# Altium footprint library arrester.PcbLib: 1 footprints
Each footprint in its own frame and in the unit in brackets; x right, y up, seen from the top. Pads: shape width x height; smd on the part's side, far side on the other; paste and mask are expansions set on the pad; w line width, h text height; cw(c..) or ccw(c..) is an arc to the next point about the centre after c.
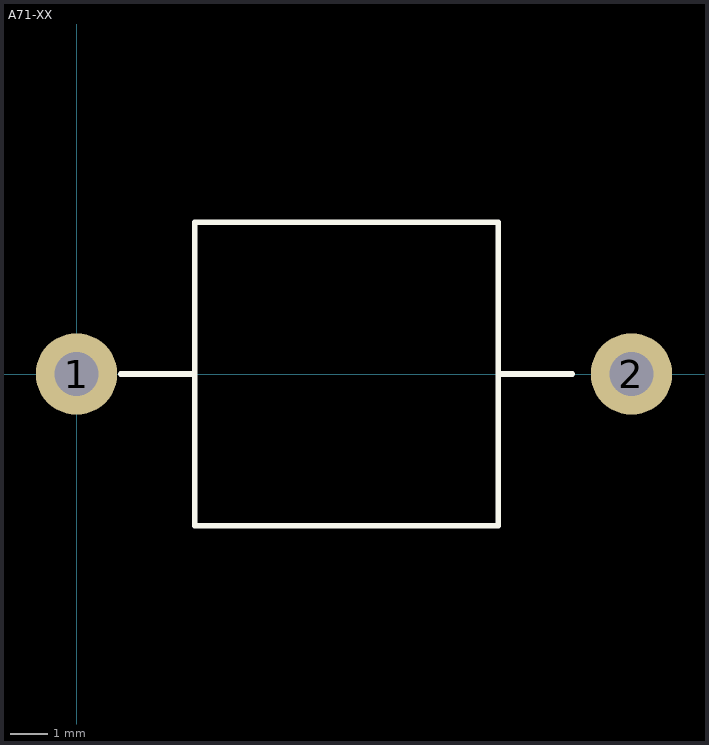
[diagram p0: the footprint, top view; thin cyan lines are the x and y axes]

## A71-XX [mm]
pads (2):
  round 2.2 hole 1.2: 1(0,0) 2(15,0)
Top Overlay:
  lines w0.15: 1.2,0 3.2,0 ; 11.4,0 13.4,0 ; 3.2,-4.1 11.4,-4.1 11.4,4.1 3.2,4.1 3.2,-4.1
3D body "User Library-EC350X.step": height 8, standoff -1.74, extent -0.507,-3.995 15.493,3.996